# EAGLE library part MPU-6000 (library Invensense)
MPU-6000: 6-axis gyroscope/accelerometer with digital motion processor Datasheet: http://www.invensense.com/mems/gyro/documents/PS-MPU-6000A-00v3.4.pdf
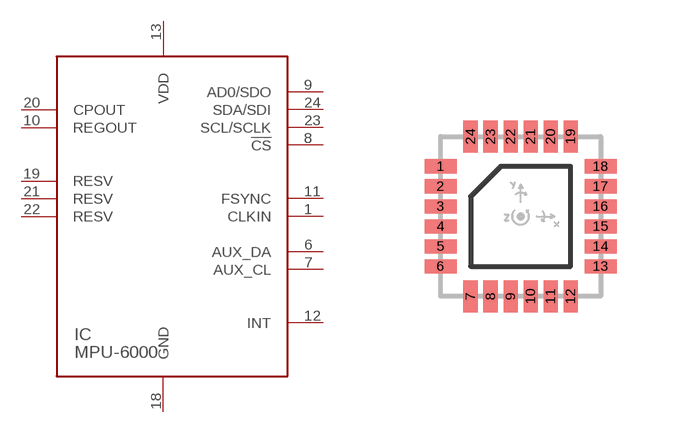
[diagram p0: symbol with the pads of QFN-24; footprint QFN-24]

Designator prefix IC

## MPU-6000 (PARTNO: MPU-6000)  [QFN-24]
1  CLKIN  in
6  AUX_DA
7  AUX_CL
8  !CS
9  AD0/SDO
10  REGOUT  pwr
11  FSYNC  in
12  INT  out
13  VDD  pwr
18  GND  pwr
19  RESV  nc
20  CPOUT  pwr
21  RESV  nc
22  RESV  nc
23  SCL/SCLK  in
24  SDA/SDI

## Footprint QFN-24 (pad centres in mm)
QFN-24: Quad Flat No-Lead package, 24 pins From http://www.invensense.com/mems/gyro/documents/PS-MPU-6000A-00v3.4.pdf Rotation arrows are based on MPU-60x0 6-axis components.
smd 0.8 x 0.35: 1 -2,1.25; 2 -2,0.75; 3 -2,0.25; 4 -2,-0.25; 5 -2,-0.75; 6 -2,-1.25; 13 2,-1.25; 14 2,-0.75; 15 2,-0.25; 16 2,0.25; 17 2,0.75; 18 2,1.25
smd 0.35 x 0.8: 7 -1.25,-2; 8 -0.75,-2; 9 -0.25,-2; 10 0.25,-2; 11 0.75,-2; 12 1.25,-2; 19 1.25,2; 20 0.75,2; 21 0.25,2; 22 -0.25,2; 23 -0.75,2; 24 -1.25,2